# Altium footprint library FerriteBead.PcbLib: 9 footprints
Each footprint in its own frame and in the unit in brackets; x right, y up, seen from the top. Pads: shape width x height; smd on the part's side, far side on the other; paste and mask are expansions set on the pad; w line width, h text height; cw(c..) or ccw(c..) is an arc to the next point about the centre after c.
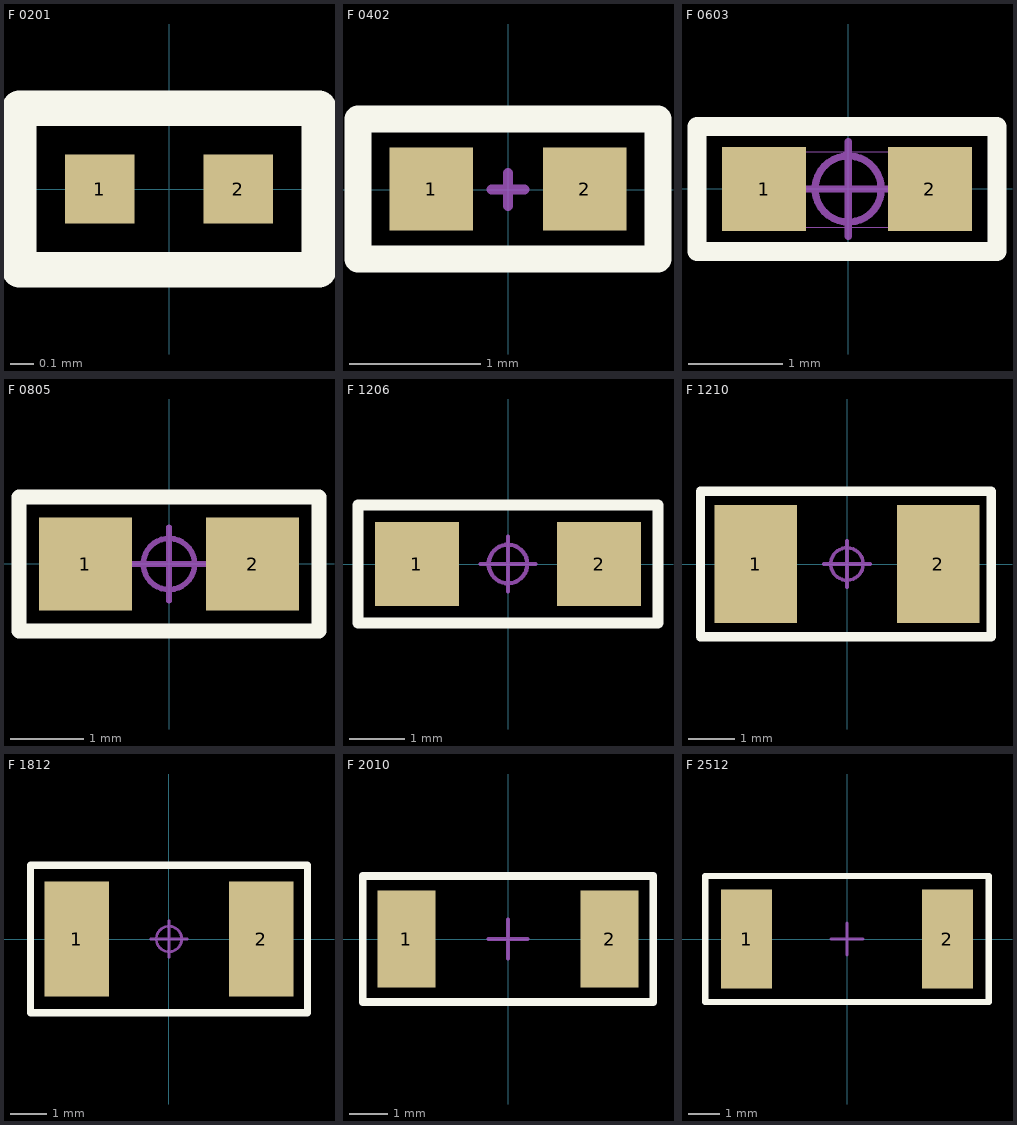
[diagram p0: the footprints below, top view; thin cyan lines are the x and y axes]

## F 0201 [mm]
pads (2):
  rect 0.3x0.3 smd: 1(-0.3,0) 2(0.3,0)
Top Overlay:
  lines w0.152: -0.65,-0.35 -0.65,0.35 0.65,0.35 0.65,-0.35 -0.65,-0.35
3D body "R 0201.STEP": height 0.23, standoff 0, extent -0.3,-0.15 0.3,0.15

## F 0402 [mil]
pads (2):
  rect 25x25 smd: 1(-23,0.15) 2(23,0.15)
Top Overlay:
  lines w8: -45,-20.84 -45,21.16 12,21.16 45,21.16 45,-20.84 11,-20.84 -45,-20.84
Mechanical 15:
  lines w3: -5,0 5,0 ; 0,-5 0,5
3D body "R 0402.STEP": height 11.85, standoff -0.09, extent -19.68,-9.84 19.69,9.85

## F 0603 [mil]
pads (2):
  rect 35x35 smd: 1(-35,0) 2(34,0)
Top Overlay:
  lines w8: 17,-26 62,-26 62,26 17,26 -63,26 -63,-26 19.68,-26
Mechanical 13:
  lines w0.39: -31.5,-16 -31.5,15.49 31.49,15.49 31.49,-16 -31.5,-16
Mechanical 15:
  circle w3: c0,0 r13.78
  lines w3: -19.69,0 19.68,0 ; 0,-19.69 0,19.68
3D body "R 0603.STEP": height 15.79, standoff -0.13, extent -31.49,-15.74 31.5,15.75

## F 0805 [mil]
pads (2):
  rect 50x50 smd: 1(-45,0) 2(45,0)
Top Overlay:
  lines w8: -80.71,-36 20,-36 80.71,-36 80.71,36 20,36 -80.71,36 -80.71,-36
Mechanical 15:
  circle w3: c0,0 r13.78
  lines w3: -19.69,0 19.68,0 ; 0,-19.69 0,19.68
3D body "R 0805.STEP": height 19.72, standoff -0.24, extent -39.37,-24.6 39.37,24.61

## F 1206 [mil]
pads (2):
  rect 60x60 smd: 1(-65,0) 2(65,0)
Top Overlay:
  lines w8: -107,-42 -107,42 35,42 107,42 107,-42 35,-42 -107,-42
Mechanical 15:
  circle w3: c0,0 r13.78
  lines w3: -19.69,0 19.68,0 ; 0,-19.69 0,19.68
3D body "R 1206.STEP": height 21.69, standoff -0.24, extent -62.99,-31.49 63,31.5

## F 1210 [mil]
pads (2):
  rect 70x100 smd: 1(-77.5,0) 2(77.5,0)
Top Overlay:
  lines w8: -124.5,-62 40.5,-62 122.5,-62 122.5,62 40.5,62 -124.5,62 -124.5,-62
Mechanical 15:
  circle w3: c0,0 r13.78
  lines w3: -19.68,0 19.68,0 ; 0,-19.68 0,19.69
3D body "R 1210.STEP": height 21.69, standoff -0.32, extent -62.99,-49.2 63,49.22

## F 1812 [mil]
pads (2):
  rect 70x125 smd: 1(-100,0) 2(100,0)
Top Overlay:
  lines w8: -150,-80 40,-80 50,-80 150,-80 150,80 50,80 40,80 -50,80 -70,80 -150,80 -150,-80
Mechanical 15:
  circle w3: c0,0 r13.78
  lines w3: -19.68,0 19.69,0 ; 0,-19.68 0,19.69
3D body "R 1812.STEP": height 21.69, standoff -0.47, extent -88.58,-62.99 88.59,63

## F 2010 [mm]
pads (2):
  rect 1.52x2.54 smd: 1(-2.665,0) 2(2.665,0)
Top Overlay:
  lines w0.203: -3.81,-1.651 1.27,-1.651 3.81,-1.651 3.81,-0.635 3.81,1.651 1.27,1.651 -3.81,1.651 -3.81,0.635 -3.81,-1.651
Mechanical 15:
  lines w0.1: -0.508,0 0.508,0 ; 0,-0.508 0,0.508
3D body "R 2010.STEP": height 0.55, standoff -0.01, extent -2.5,-1.25 2.5,1.25

## F 2512 [mm]
pads (2):
  rect 1.65x3.2 smd: 1(-3.24,0) 2(3.24,0)
Top Overlay:
  lines w0.203: -4.572,-2.032 4.572,-2.032 4.572,2.032 -4.572,2.032 -4.572,-2.032
Mechanical 15:
  lines w0.1: -0.508,0 0.508,0 ; 0,-0.508 0,0.508
3D body "R 2512.STEP": height 0.55, standoff -0.02, extent -3.2,-1.6 3.2,1.6